# Altium schematic symbol library FDBL86563-F085.SchLib: 1 symbol
Pins are listed as number, name and electrical type; pins without a type are passive.

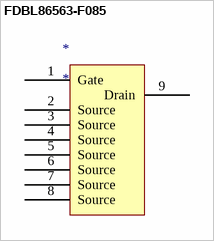
[diagram p0: symbol FDBL86563-F085]

## FDBL86563-F085
designator *
pins: 1 Gate, 2 Source, 3 Source, 4 Source, 5 Source, 6 Source, 7 Source, 8 Source, 9 Drain